# EAGLE library part 7SEG_LED (library systas0)
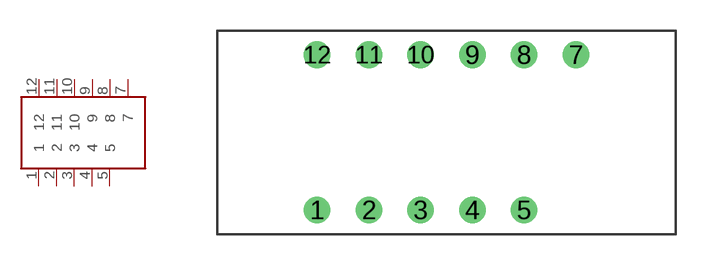
[diagram p23: symbol with the pads of 7SEG_LED; footprint 7SEG_LED]

Designator prefix -

## 7SEG_LED  [7SEG_LED]
1  1
2  2
3  3
4  4
5  5
7  7
8  8
9  9
10  10
11  11
12  12

## Footprint 7SEG_LED (pad centres in mm)
drill 0.8: 1 -6.35,-3.81; 2 -3.81,-3.81; 3 -1.27,-3.81; 4 1.27,-3.81; 5 3.81,-3.81; 7 6.35,3.81; 8 3.81,3.81; 9 1.27,3.81; 10 -1.27,3.81; 11 -3.81,3.81; 12 -6.35,3.81